# Altium integrated library DFE252012F-6R8M_P2.IntLib: 1 symbol
Pins are listed as number, name and electrical type; pins without a type are passive.

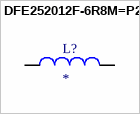
[diagram p0: symbol DFE252012F-6R8M=P2]

## DFE252012F-6R8M=P2
designator L?
Ind Metal Alloy Shielded 6.8uH 20% 1MHz Iron Powder 1.2A 1008 T/R; MP: DFE252012F-6R8M=P2; Package: None; Price: None; Value: *; Availability: Unavailable
footprint INDC2520X120N
pins: 1, 2